# Altium schematic symbol library SCH - POWER - LINEAR VREG - TI LM317L_PW_8.SchLib: 1 symbol
Pins are listed as number, name and electrical type; pins without a type are passive.

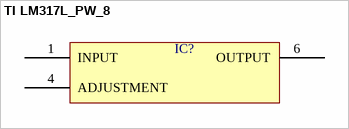
[diagram p0: symbol TI LM317L_PW_8]

## TI LM317L_PW_8
designator IC?  (value not drawn)
pins: 1 INPUT, 4 ADJUSTMENT, 6 OUTPUT